# Altium schematic symbol library CONN-FPC-503480-1200.SchLib: 1 symbol
Pins are listed as number, name and electrical type; pins without a type are passive.

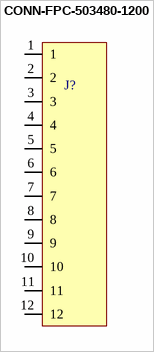
[diagram p0: symbol CONN-FPC-503480-1200]

## CONN-FPC-503480-1200
designator J?  (value not drawn)
pins: 1, 2, 3, 4, 5, 6, 7, 8, 9, 10, 11, 12